# EAGLE library part 6120XX22121_61201622121 (library Eagle_WR-BHD (rev21a))
WR-BHD 2.54 mm Male Box Header with short lever KIND PROPERTIES: Pitch 2.54 mm Gender:Male MATERIAL PROPERTIES: Insulator Material:PBT Insulator Flammability Rating UL94 V-0 Insulator Color:Black Contact Material :Copper Alloy Contact Plating :Gold Contact Type: Stamped GENERAL INFORMATION: Operating Temperature:-40 °C up to +125 °C Compliance:RoHS Working Voltage: 250 V (AC) Withstanding Voltage:500 V (AC) Contact Resistance: 20 mΩ Insulation Resistance:1000 MΩ PACKAGING PROPERTIES Packaging :Tray <https://www.we-online.de/katalog/media/o77864v209%20Family_61201022821.jpg> Details see: https://www.we-online.de/katalog/en/em/BHD_2_54_MALE_BOX_HEADER_WITH_SHORT_LEVER_6120XX22021 Updated by Yingchun,Shan 2019-10-30 2019 (C) Würth Elektronik
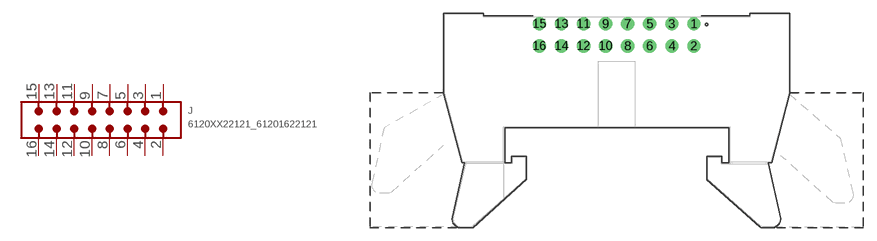
[diagram p48: symbol with the pads of 61201622121; footprint 61201622121]

Designator prefix J

## 6120XX22121_61201622121 (CONTACT-RESISTANCE: 20mOhm; DATASHEET-URL: https://www.we-online.com/catalog/datasheet/61201622121.pdf; GENDER: Male; IR: 3A; L: 39.82mm; MOUNT: THT; PACKAGING: Tray; PART-NUMBER: 61201622121; PINS: 16; PITCH: 2.54mm; TYPE: Angled; VALUE: 61201622121; WORKING-VOLTAGE: 250V(AC))  [61201622121]
1  1  pas
2  2  pas
3  3  pas
4  4  pas
5  5  pas
6  6  pas
7  7  pas
8  8  pas
9  9  pas
10  10  pas
11  11  pas
12  12  pas
13  13  pas
14  14  pas
15  15  pas
16  16  pas

## Footprint 61201622121 (pad centres in mm)
WR-BHD 2.54 mm Male Angled Box Header with short lever,16 Pins
drill 1.02: 1 8.89,7.36; 2 8.89,4.82; 3 6.35,7.36; 4 6.35,4.82; 5 3.81,7.36; 6 3.81,4.82; 7 1.27,7.36; 8 1.27,4.82; 9 -1.27,7.36; 10 -1.27,4.82; 11 -3.81,7.36; 12 -3.81,4.82; 13 -6.35,7.36; 14 -6.35,4.82; 15 -8.89,7.36; 16 -8.89,4.82